# Altium footprint library ABS07AIG-32.768KHZ.PcbLib: 1 footprints
Each footprint in its own frame and in the unit in brackets; x right, y up, seen from the top. Pads: shape width x height; smd on the part's side, far side on the other; paste and mask are expansions set on the pad; w line width, h text height; cw(c..) or ccw(c..) is an arc to the next point about the centre after c.
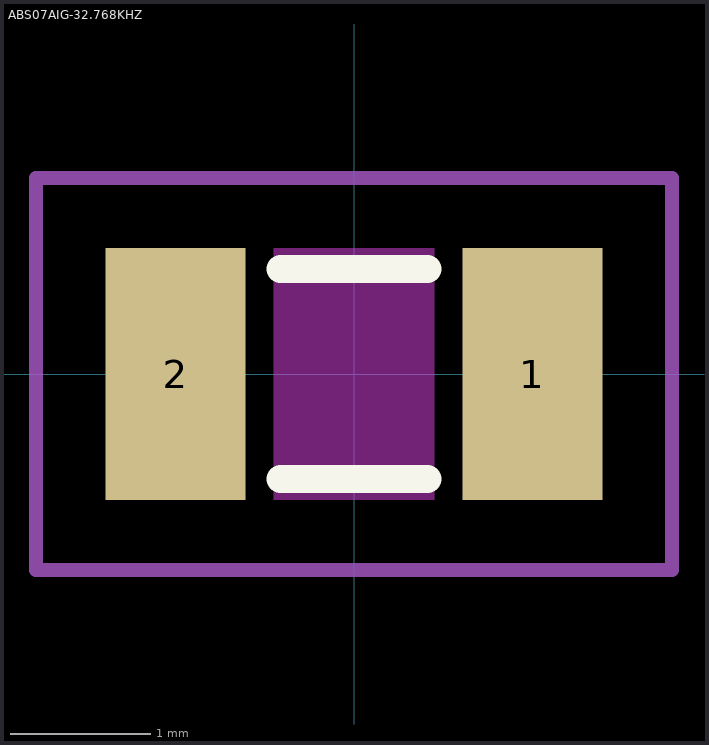
[diagram p0: the footprint, top view; thin cyan lines are the x and y axes]

## ABS07AIG-32.768KHZ [mm]
height 1
pads (2):
  rect 1x1.8 smd: 1(1.275,0) 2(-1.275,0)
Top Layer keep-out:
  rectangle: -0.575,-0.9 0.575,0.9
Top Overlay:
  lines w0.2: -0.525,-0.75 0.525,-0.75 ; -0.525,0.75 0.525,0.75
Top Courtyard:
  lines w0.1: -2.275,-1.4 -1.9,-1.4 2.275,-1.4 2.275,1.4 -2.275,1.4 -2.275,-1.4
3D body "ABS07AIG.STEP": height 0.9, standoff 0, extent -1.6,-0.75 1.6,0.75